# EAGLE library part DIGILENT-JTAG (library dan-digilent)
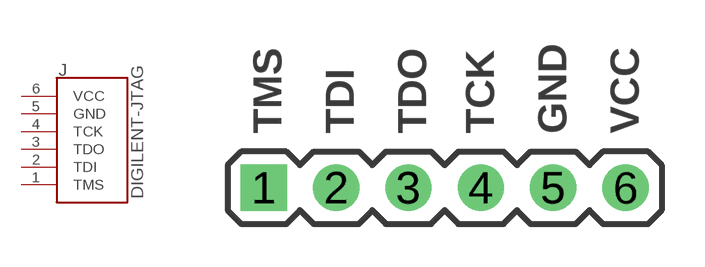
[diagram p1: symbol with the pads of DIGILENT-JTAG-01X06; footprint DIGILENT-JTAG-01X06]

Designator prefix J

## DIGILENT-JTAG  [DIGILENT-JTAG-01X06]
1  TMS
2  TDI
3  TDO
4  TCK
5  GND  pas
6  VCC  pas

## Footprint DIGILENT-JTAG-01X06 (pad centres in mm)
drill 1.016 pad 1.626 square: 1 -6.35,0
drill 1.016 pad 1.626 round: 2 -3.81,0; 3 -1.27,0; 4 1.27,0; 5 3.81,0; 6 6.35,0